# EAGLE library part RASPBERRYPI-PICO (library RaspberryPI-PICO)
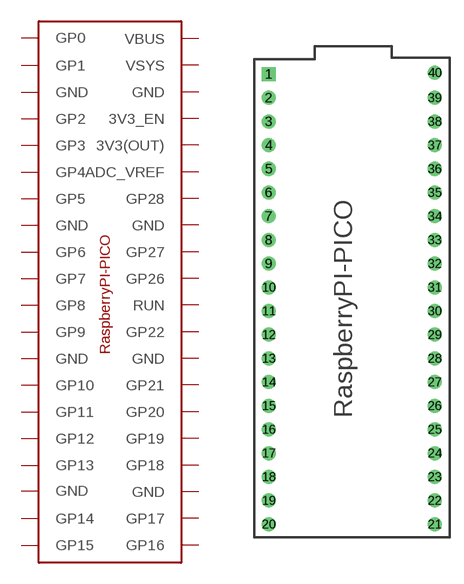
[diagram p0: symbol with the pads of RaspberryPI-PICO; footprint RaspberryPI-PICO]

Designator prefix U

## RASPBERRYPI-PICO (DATASHEET: https://datasheets.raspberrypi.org/pico/pico_datasheet.pdf; MANUFACTURER: RaspberryPI; VALUE: -)  [RaspberryPI-PICO]
1  GP0
2  GP1
3  GND
4  GP2
5  GP3
6  GP4
7  GP5
8  GND
9  GP6
10  GP7
11  GP8
12  GP9
13  GND
14  GP10
15  GP11
16  GP12
17  GP13  out
18  GND
19  GP14
20  GP15
21  GP16
22  GP17
23  GND
24  GP18
25  GP19
26  GP20
27  GP21
28  GND
29  GP22
30  RUN
31  GP26
32  GP27
33  GND
34  GP28
35  ADC_VREF
36  3V3(OUT)
37  3V3_EN
38  GND
39  VSYS
40  VBUS

## Footprint RaspberryPI-PICO (pad centres in mm)
-
drill 0.9 pad 1.5 square: 1 -8.731,23.019
drill 0.9 pad 1.5: 2 -8.731,20.479; 3 -8.731,17.939; 4 -8.731,15.399; 5 -8.731,12.859; 6 -8.731,10.319; 7 -8.731,7.779; 8 -8.731,5.239; 9 -8.731,2.699; 10 -8.731,0.159; 11 -8.731,-2.381; 12 -8.731,-4.921; 13 -8.731,-7.461; 14 -8.731,-10.001; 15 -8.731,-12.541; 16 -8.731,-15.081; 17 -8.731,-17.621; 18 -8.731,-20.161; 19 -8.731,-22.701; 20 -8.731,-25.241; 21 9.049,-25.241; 22 9.049,-22.701; 23 9.049,-20.161; 24 9.049,-17.621; 25 9.049,-15.081; 26 9.049,-12.541; 27 9.049,-10.001; 28 9.049,-7.461; 29 9.049,-4.921; 30 9.049,-2.381; 31 9.049,0.159; 32 9.049,2.699; 33 9.049,5.239; 34 9.049,7.779; 35 9.049,10.319; 36 9.049,12.859; 37 9.049,15.399; 38 9.049,17.939; 39 9.049,20.479; 40 9.049,23.178